# Altium schematic symbol library TXC-7M-16.SCHLIB: 1 symbol
Pins are listed as number, name and electrical type; pins without a type are passive.

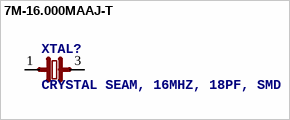
[diagram p0: symbol 7M-16.000MAAJ-T]

## 7M-16.000MAAJ-T
designator XTAL?, comment CRYSTAL SEAM, 16MHZ, 18PF, SMD
MPN: 7M-16.000MAAJ-T; OC_FARNELL: 1842060; OC_NEWARK: 84R5710; PACKAGE: SMD; SUPPLIER: TXC
footprint TXC_7M-16.000MAAJ-T
pins: 1, 3